# EAGLE library part AMPHENOL_RJ45 (library RJ45)
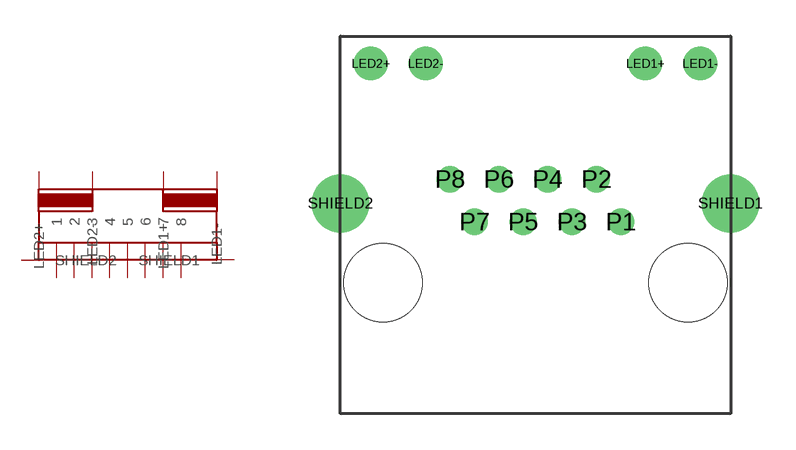
[diagram p0: symbol with the pads of RJ45; footprint RJ45]

Designator prefix -

## AMPHENOL_RJ45  [RJ45]
LED1+  LED1+
LED1-  LED1-
LED2+  LED2+
LED2-  LED2-
P1  1
P2  2
P3  3
P4  4
P5  5
P6  6
P7  7
P8  8
SHIELD1  SHIELD1
SHIELD2  SHIELD2

## Footprint RJ45 (pad centres in mm)
drill 0.9: LED1+ 10.922,9.144; LED1- 13.208,9.144; LED2+ -0.508,9.144; LED2- 1.778,9.144
drill 0.6: P1 9.906,2.54; P2 8.89,4.318; P3 7.874,2.54; P4 6.858,4.318; P5 5.842,2.54; P6 4.826,4.318; P7 3.81,2.54; P8 2.794,4.318
drill 1.6: SHIELD1 14.478,3.302; SHIELD2 -1.778,3.302
hole 3.251 at 0,0
hole 3.251 at 12.7,0